# EAGLE library part ST1S10PHR (library ST1S10PHR)
ST1S10 - SO8: 3 A, 900 kHz, monolithic synchronous step-down regulator
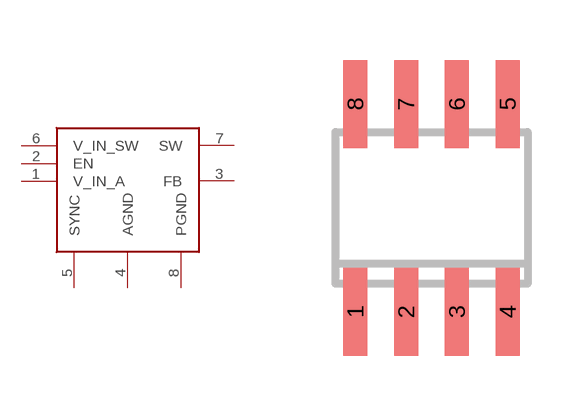
[diagram p0: symbol with the pads of SO8; footprint SO8]

Designator prefix -

## ST1S10PHR  [SO8]
1  V_IN_A
2  EN
3  FB
4  AGND
5  SYNC
6  V_IN_SW
7  SW
8  PGND

## Footprint SO8 (pad centres in mm)
smd 0.6 x 2.2: 1 -1.905,-2.6; 2 -0.635,-2.6; 3 0.635,-2.6; 4 1.905,-2.6; 5 1.905,2.6; 6 0.635,2.6; 7 -0.635,2.6; 8 -1.905,2.6